# EAGLE library part GEC11DABN-M30 (library con-sullins)
HEADER - Vertical
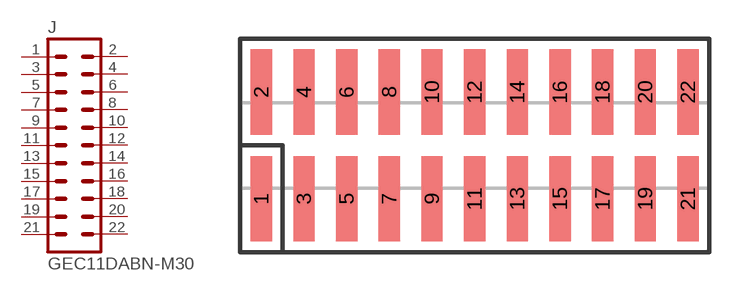
[diagram p17: symbol with the pads of GXC11; footprint GXC11]

Designator prefix J

## GEC11DABN-M30  [GXC11]
1  1  pas
2  2  pas
3  3  pas
4  4  pas
5  5  pas
6  6  pas
7  7  pas
8  8  pas
9  9  pas
10  10  pas
11  11  pas
12  12  pas
13  13  pas
14  14  pas
15  15  pas
16  16  pas
17  17  pas
18  18  pas
19  19  pas
20  20  pas
21  21  pas
22  22  pas

## Footprint GXC11 (pad centres in mm)
SMD HEADER - 0.1", Vertical
smd 1.27 x 5.08: 1 -12.7,-3.175; 2 -12.7,3.175; 3 -10.16,-3.175; 4 -10.16,3.175; 5 -7.62,-3.175; 6 -7.62,3.175; 7 -5.08,-3.175; 8 -5.08,3.175; 9 -2.54,-3.175; 10 -2.54,3.175; 11 0,-3.175; 12 0,3.175; 13 2.54,-3.175; 14 2.54,3.175; 15 5.08,-3.175; 16 5.08,3.175; 17 7.62,-3.175; 18 7.62,3.175; 19 10.16,-3.175; 20 10.16,3.175; 21 12.7,-3.175; 22 12.7,3.175